# Altium integrated library Analog Devices Data Converters Analog-to-Digital Converters.IntLib: 2404 symbols (part 75 of 346)
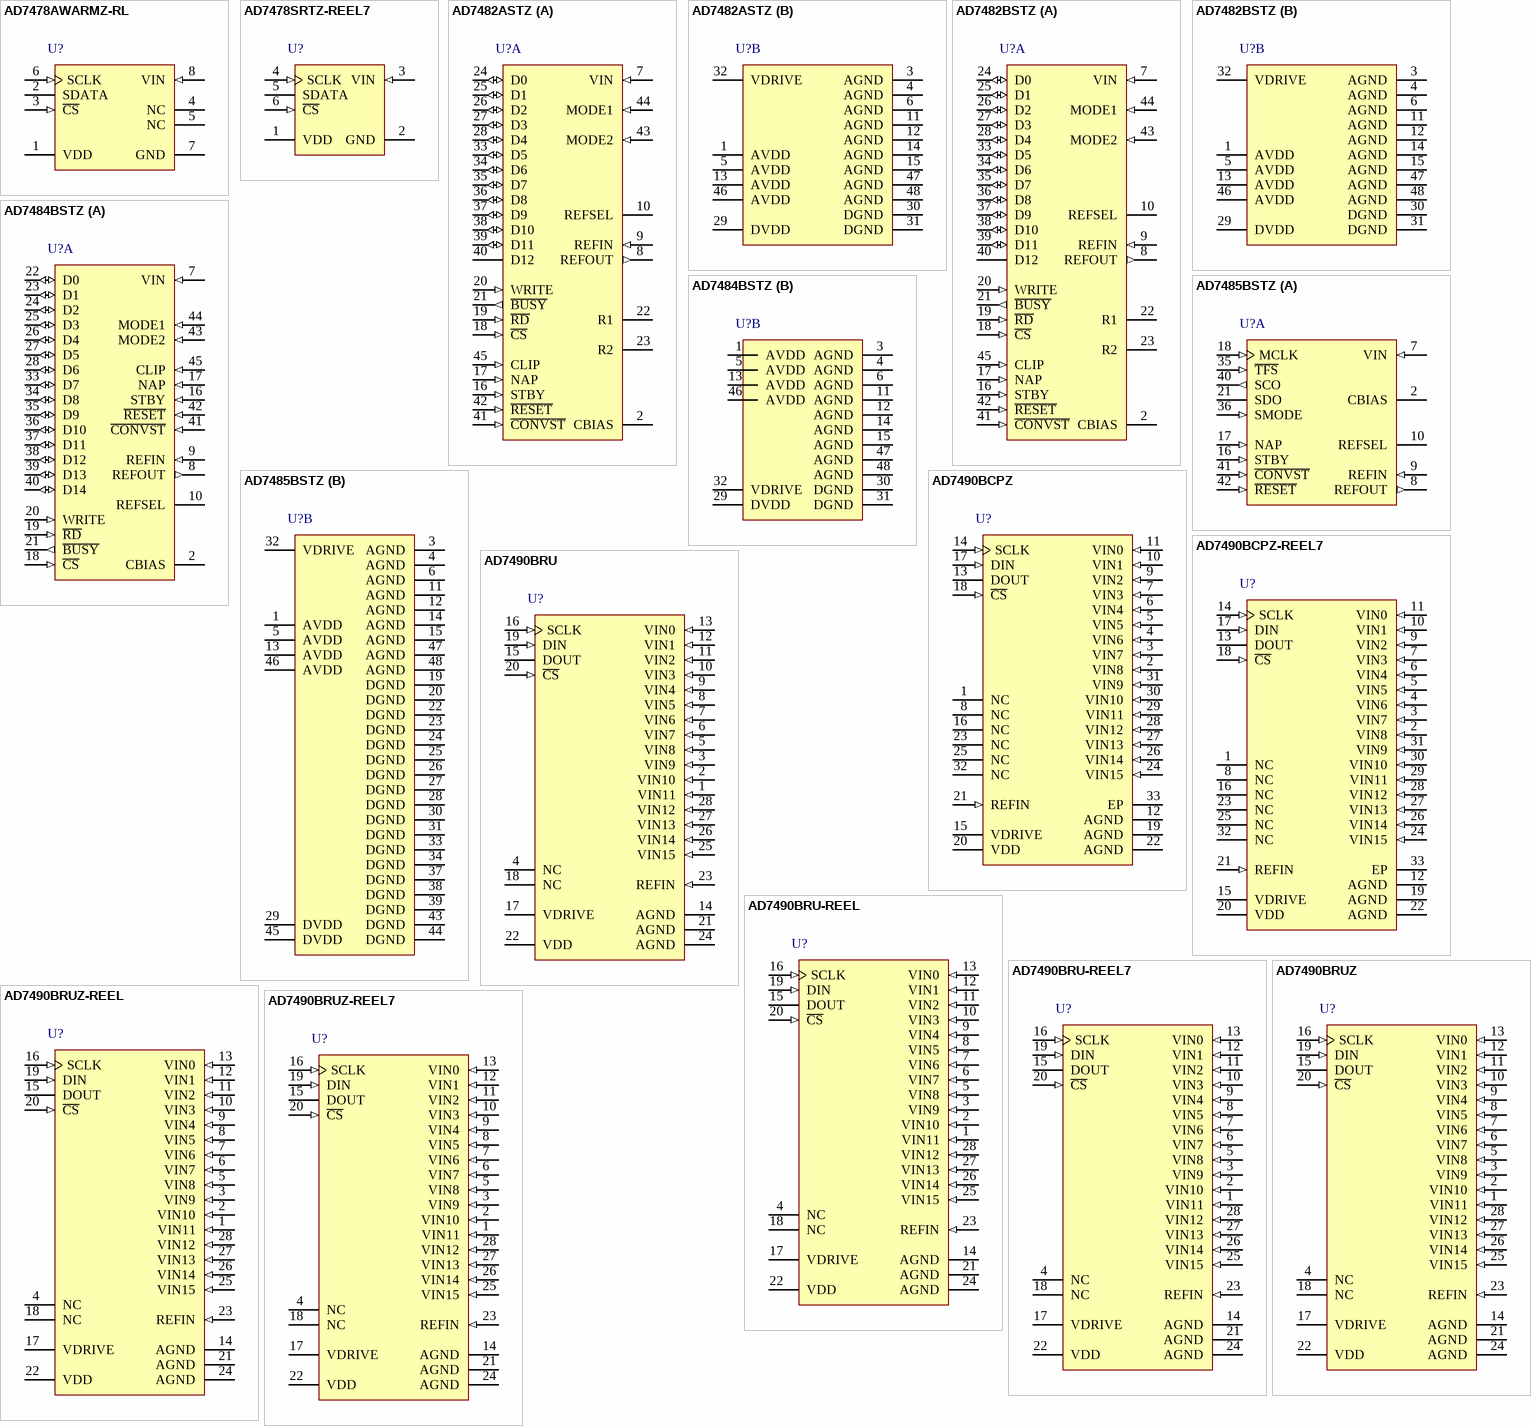
[diagram p295: symbols AD7478AWARMZ-RL to AD7490BRUZ-REEL7]

## AD7482BSTZ
designator U?
Single 12-Bit SAR Analog-to-Digital Converter with Parallel Interface, 3MSPS, 0 to +70 degC, ST-48, Pb-Free, Tray; Generic Part Number: AD7482; Manufacturer: Analog Devices; PartNumber: AD7482BSTZ; Resolution (Bits): 12; Channels: 1; Throughput Rate (SPS): 3M; Interface: Par; DatasheetVersion: Rev.B; PackageVersion: revA; PackageReference: ST-48; PackageDescription: 48-Pin Thin Quad Flat Pack 0.5 mm Pitch; Supplier 1: Digi-Key; Supplier Part Number 1: AD7482BSTZ-ND; Supplier 2: Newark; Supplier Part Number 2: 59K4926; Supplier 3: Mouser; Supplier Part Number 3: 584-AD7482BSTZ; RoHS: Y; Packing: Tray; Mounting Technology: Surface Mount; ComponentLink1Description: Manufacturer URL; ComponentLink1URL: http://www.analog.com/en/index.html; ComponentLink2Description: Datasheet; ComponentLink2URL: http://www.analog.com/static/imported-files/data_sheets/AD7482.pdf; ComponentLink3Description: Package Specification; ComponentLink3URL: http://www.analog.com/static/imported-files/packages/PKG_PDF/LQFP%28ST%29/ST_48.pdf; ComponentLink4Description: Product URL; ComponentLink4URL: http://www.analog.com/en/analog-to-digital-converters/ad-converters/ad7482/products/product.html
footprint ST-48_N (Thin QFP, 48-Leads, Body 7x7mm, Pitch 0.5mm, IPC Medium Density)
footprint ST-48_L (Thin QFP, 48-Leads, Body 7x7mm, Pitch 0.5mm, IPC High Density)
footprint ST-48_M (Thin QFP, 48-Leads, Body 7x7mm, Pitch 0.5mm, IPC Low Density)
part A pins: 2 CBIAS "Decoupling Pin for Internal Bias Voltage. A 1 nF capacitor should be placed between this pin and AGND.", 7 VIN (in) "Analog Input. Single ended analog input channel.", 8 REFOUT (out) "Reference Output. REFOUT connects to the output of the internal 2.5 V reference buffer. A 470 nF capacitor must be placed between this pin and AGND.", 9 REFIN (in) "Reference Input. A 470 nF capacitor must be placed between this pin and AGND. When using an external voltage reference source, the reference voltage should be applied to this pin.", 10 REFSEL "Reference Decoupling Pin. When using the internal reference, a 1 nF capacitor must be connected from this pin to AGND. When using an external reference source, this pin should be connected directly to AGND.", 16 STBY (in) "Standby Logic Input. When this pin is logic high, the device is placed in standby mode. See the Power Saving section for further details.", 17 NAP (in) "Nap Logic Input. When this pin is logic high, the device is placed in a very low power mode. See the Power Saving section for further details.", 18 ~{CS} (in) "Chip Select Logic Input. This pin is used in conjunction with R\D\ to access the conversion result. The data bus is brought out of three-state and the current contents of the output register driven onto the data lines (See Datasheet)", 19 ~{RD} (in) "Read Logic Input. Used in conjunction with C\S\ to access the conversion result.", 20 WRITE (in) "Write Logic Input. Used in conjunction with C\S\ to write data to the offset register. When the desired offset word has been placed on the data bus, the WRITE line should be pulsed high. It is the falling edge of this pulse (See Datasheet)", 21 ~{BUSY} (out) "Busy Logic Output. This pin indicates the status of the conversion process. The B\U\S\Y\ signal goes low after the falling edge of C\O\N\V\S\T\ and stays low for the duration of the conversion. In Parallel Mode 1, the (See Datasheet)", 22 R1 "No Connect. These pins should be pulled to ground via 100 kO resistors.", 23 R2 "No Connect. These pins should be pulled to ground via 100 kO resistors.", 24 D0 (io) "Data I/O Bits. D11 is MSB. These are three-state pins that are controlled by C\S\, R\D\, and WRITE. The operating voltage level for these pins is determined by the VDRIVE input.", 25 D1 (io) "Data I/O Bits. D11 is MSB. These are three-state pins that are controlled by C\S\, R\D\, and WRITE. The operating voltage level for these pins is determined by the VDRIVE input.", 26 D2 (io) "Data I/O Bits. D11 is MSB. These are three-state pins that are controlled by C\S\, R\D\, and WRITE. The operating voltage level for these pins is determined by the VDRIVE input.", 27 D3 (io) "Data I/O Bits. D11 is MSB. These are three-state pins that are controlled by C\S\, R\D\, and WRITE. The operating voltage level for these pins is determined by the VDRIVE input.", 28 D4 (io) "Data I/O Bits. D11 is MSB. These are three-state pins that are controlled by C\S\, R\D\, and WRITE. The operating voltage level for these pins is determined by the VDRIVE input.", 33 D5 (io) "Data I/O Bits. D11 is MSB. These are three-state pins that are controlled by C\S\, R\D\, and WRITE. The operating voltage level for these pins is determined by the VDRIVE input.", 34 D6 (io) "Data I/O Bits. D11 is MSB. These are three-state pins that are controlled by C\S\, R\D\, and WRITE. The operating voltage level for these pins is determined by the VDRIVE input.", 35 D7 (io) "Data I/O Bits. D11 is MSB. These are three-state pins that are controlled by C\S\, R\D\, and WRITE. The operating voltage level for these pins is determined by the VDRIVE input.", 36 D8 (io) "Data I/O Bits. D11 is MSB. These are three-state pins that are controlled by C\S\, R\D\, and WRITE. The operating voltage level for these pins is determined by the VDRIVE input.", 37 D9 (io) "Data I/O Bits. D11 is MSB. These are three-state pins that are controlled by C\S\, R\D\, and WRITE. The operating voltage level for these pins is determined by the VDRIVE input.", 38 D10 (io) "Data I/O Bits. D11 is MSB. These are three-state pins that are controlled by C\S\, R\D\, and WRITE. The operating voltage level for these pins is determined by the VDRIVE input.", 39 D11 (io) "Data I/O Bits. D11 is MSB. These are three-state pins that are controlled by C\S\, R\D\, and WRITE. The operating voltage level for these pins is determined by the VDRIVE input.", 40 D12 (hiz) "Data Output Bit for Overranging. If the overrange feature is not used, this pin should be pulled to DGND via a 100 kO resistor.", 41 ~{CONVST} (in) "Convert Start Logic Input. A conversion is initiated on the falling edge of the C\O\N\V\S\T\ signal. The input track-and-hold amplifier goes from track mode to hold mode, and the conversion process commences.", 42 ~{RESET} (in) "Reset Logic Input. An active low reset pulse must be applied to this pin after power-up to ensure correct operation. A falling edge on this pin resets the internal state machine and terminates a conversion that may be in (See Datasheet)", 43 MODE2 (in) "Operating Mode Logic Input. See Table 8 for details.", 44 MODE1 (in) "Operating Mode Logic Input. See Table 8 for details.", 45 CLIP (in) "Logic Input. A logic high on this pin enables output clipping. In this mode, any input voltage that is greater than positive full scale or less than negative full scale is clipped to all 1s or all 0s, respectively. Further (See Datasheet)"
part B pins: 1 AVDD (power) "Positive Power Supply for Analog Circuitry.", 3 AGND (power) "Power Supply Ground for Analog Circuitry.", 4 AGND (power) "Power Supply Ground for Analog Circuitry.", 5 AVDD (power) "Positive Power Supply for Analog Circuitry.", 6 AGND (power) "Power Supply Ground for Analog Circuitry.", 11 AGND (power) "Power Supply Ground for Analog Circuitry.", 12 AGND (power) "Power Supply Ground for Analog Circuitry.", 13 AVDD (power) "Positive Power Supply for Analog Circuitry.", 14 AGND (power) "Power Supply Ground for Analog Circuitry.", 15 AGND (power) "Power Supply Ground for Analog Circuitry.", 29 DVDD (power) "Positive Power Supply for Digital Circuitry.", 30 DGND (power) "Ground Reference for Digital Circuitry.", 31 DGND (power) "Ground Reference for Digital Circuitry.", 32 VDRIVE (power) "Logic Power Supply Input. The voltage supplied at this pin determines at what voltage the interface logic of the device operates.", 46 AVDD (power) "Positive Power Supply for Analog Circuitry.", 47 AGND (power) "Power Supply Ground for Analog Circuitry.", 48 AGND (power) "Power Supply Ground for Analog Circuitry."

## AD7484BSTZ
designator U?
Single 14-Bit SAR Analog-to-Digital Converter with Parallel Interface, 3MSPS, 0 to +70 degC, ST-48, Pb-Free, Tray; Generic Part Number: AD7484; Manufacturer: Analog Devices; PartNumber: AD7484BSTZ; Resolution (Bits): 14; Channels: 1; Throughput Rate (SPS): 3M; Interface: Par; DatasheetVersion: Rev.C; PackageVersion: revA; PackageReference: ST-48; PackageDescription: 48-Pin Thin Quad Flat Pack 0.5 mm Pitch; Supplier 1: Digi-Key; Supplier Part Number 1: AD7484BSTZ-ND; Supplier 2: Farnell; Supplier Part Number 2: 1438350; Supplier 3: Newark; Supplier Part Number 3: 59K4928; Supplier 4: Mouser; Supplier Part Number 4: 584-AD7484BSTZ; RoHS: Y; Packing: Tray; Mounting Technology: Surface Mount; ComponentLink1Description: Manufacturer URL; ComponentLink1URL: http://www.analog.com/en/index.html; ComponentLink2Description: Datasheet; ComponentLink2URL: http://www.analog.com/static/imported-files/data_sheets/AD7484.pdf; ComponentLink3Description: Package Specification; ComponentLink3URL: http://www.analog.com/static/imported-files/packages/PKG_PDF/LQFP%28ST%29/ST_48.pdf; ComponentLink4Description: Product URL; ComponentLink4URL: http://www.analog.com/en/analog-to-digital-converters/ad-converters/ad7484/products/product.html
footprint ST-48_N (Thin QFP, 48-Leads, Body 7x7mm, Pitch 0.5mm, IPC Medium Density)
footprint ST-48_L (Thin QFP, 48-Leads, Body 7x7mm, Pitch 0.5mm, IPC High Density)
footprint ST-48_M (Thin QFP, 48-Leads, Body 7x7mm, Pitch 0.5mm, IPC Low Density)
part A pins: 2 CBIAS "Decoupling Pin for Internal Bias Voltage. A 1 nF capacitor should be placed between this pin and AGND.", 7 VIN (in) "Analog Input. Single ended analog input channel.", 8 REFOUT (out) "Reference Output. REFOUT connects to the output of the internal 2.5 V reference buffer. A 470 nF capacitor must be placed between this pin and AGND.", 9 REFIN (in) "Reference Input. A 470 nF capacitor must be placed between this pin and AGND. When using an external voltage reference source, the reference voltage should be applied to this pin.", 10 REFSEL "Reference Decoupling Pin. When using the internal reference, a 1 nF capacitor must be connected from this pin to AGND. When using an external reference source, this pin should be connected directly to AGND.", 16 STBY (in) "Standby Logic Input. When this pin is logic high, the device is placed in standby mode. See the Power Saving section for further details.", 17 NAP (in) "Nap Logic Input. When this pin is logic high, the device is placed in a very low power mode. See the Power Saving section for further details.", 18 ~{CS} (in) "Chip Select Logic Input. This pin is used in conjunction with R\D\ to access the conversion result. The data bus is brought out of three-state and the current contents of the output register driven onto the data lines (See Datasheet)", 19 ~{RD} (in) "Read Logic Input. Used in conjunction with C\S\ to access the conversion result.", 20 WRITE (in) "Write Logic Input. Used in conjunction with C\S\ to write data to the offset register. When the desired offset word has been placed on the data bus, the WRITE line should be pulsed high. It is the falling edge of this pulse (See Datasheet)", 21 ~{BUSY} (out) "Busy Logic Output. This pin indicates the status of the conversion process. The B\U\S\Y\ signal goes low after the falling edge of C\O\N\V\S\T\ and stays low for the duration of the conversion. In Parallel Mode 1, the (See Datasheet)", 22 D0 (io) "Data I/O Bits. D13 is MSB. These are three-state pins that are controlled by C\S\, R\D\, and WRITE. The operating  voltage level for these pins is determined by the VDRIVE input.", 23 D1 (io) "Data I/O Bits. D13 is MSB. These are three-state pins that are controlled by C\S\, R\D\, and WRITE. The operating  voltage level for these pins is determined by the VDRIVE input.", 24 D2 (io) "Data I/O Bits. D13 is MSB. These are three-state pins that are controlled by C\S\, R\D\, and WRITE. The operating  voltage level for these pins is determined by the VDRIVE input.", 25 D3 (io) "Data I/O Bits. D13 is MSB. These are three-state pins that are controlled by C\S\, R\D\, and WRITE. The operating  voltage level for these pins is determined by the VDRIVE input.", 26 D4 (io) "Data I/O Bits. D13 is MSB. These are three-state pins that are controlled by C\S\, R\D\, and WRITE. The operating  voltage level for these pins is determined by the VDRIVE input.", 27 D5 (io) "Data I/O Bits. D13 is MSB. These are three-state pins that are controlled by C\S\, R\D\, and WRITE. The operating  voltage level for these pins is determined by the VDRIVE input.", 28 D6 (io) "Data I/O Bits. D13 is MSB. These are three-state pins that are controlled by C\S\, R\D\, and WRITE. The operating  voltage level for these pins is determined by the VDRIVE input.", 33 D7 (io) "Data I/O Bits. D13 is MSB. These are three-state pins that are controlled by C\S\, R\D\, and WRITE. The operating  voltage level for these pins is determined by the VDRIVE input.", 34 D8 (io) "Data I/O Bits. D13 is MSB. These are three-state pins that are controlled by C\S\, R\D\, and WRITE. The operating  voltage level for these pins is determined by the VDRIVE input.", 35 D9 (io) "Data I/O Bits. D13 is MSB. These are three-state pins that are controlled by C\S\, R\D\, and WRITE. The operating  voltage level for these pins is determined by the VDRIVE input.", 36 D10 (io) "Data I/O Bits. D13 is MSB. These are three-state pins that are controlled by C\S\, R\D\, and WRITE. The operating  voltage level for these pins is determined by the VDRIVE input.", 37 D11 (io) "Data I/O Bits. D13 is MSB. These are three-state pins that are controlled by C\S\, R\D\, and WRITE. The operating  voltage level for these pins is determined by the VDRIVE input.", 38 D12 (io) "Data I/O Bits. D13 is MSB. These are three-state pins that are controlled by C\S\, R\D\, and WRITE. The operating  voltage level for these pins is determined by the VDRIVE input.", 39 D13 (io) "Data I/O Bits. D13 is MSB. These are three-state pins that are controlled by C\S\, R\D\, and WRITE. The operating  voltage level for these pins is determined by the VDRIVE input.", 40 D14 (io) "Data Output Bit for Overranging. If the overrange feature is not used, this pin should be pulled to DGND via a 100 k ohm resistor.", 41 ~{CONVST} (in) "Convert Start Logic Input. A conversion is initiated on the falling edge of the C\O\N\V\S\T\ signal. The input track and-hold amplifier goes from track mode to hold mode, and the conversion process commences.", 42 ~{RESET} (in) "Reset Logic Input. An active low reset pulse must be applied to this pin after power-up to ensure correct operation. A falling edge on this pin resets the internal state machine and terminates a conversion that may be in (See Datasheet)", 43 MODE2 (in) "Operating Mode Logic Input. See Table 8 for details.", 44 MODE1 (in) "Operating Mode Logic Input. See Table 8 for details.", 45 CLIP (in) "Logic Input. A logic high on this pin enables output clipping. In this mode, any input voltage that is greater than positive full scale or less than negative full scale will be clipped to all 1s or all 0s, respectively. (See Datasheet)"
part B pins: 1 AVDD (power) "Positive Power Supply for Analog Circuitry.", 3 AGND (power) "Power Supply Ground for Analog Circuitry.", 4 AGND (power) "Power Supply Ground for Analog Circuitry.", 5 AVDD (power) "Positive Power Supply for Analog Circuitry.", 6 AGND (power) "Power Supply Ground for Analog Circuitry.", 11 AGND (power) "Power Supply Ground for Analog Circuitry.", 12 AGND (power) "Power Supply Ground for Analog Circuitry.", 13 AVDD (power) "Positive Power Supply for Analog Circuitry.", 14 AGND (power) "Power Supply Ground for Analog Circuitry.", 15 AGND (power) "Power Supply Ground for Analog Circuitry.", 29 DVDD (power) "Positive Power Supply for Digital Circuitry.", 30 DGND (power) "Ground Reference for Digital Circuitry.", 31 DGND (power) "Ground Reference for Digital Circuitry.", 32 VDRIVE (power) "Logic Power Supply Input. The voltage supplied at this pin determines at what voltage the interface logic of the device operates.", 46 AVDD (power) "Positive Power Supply for Analog Circuitry.", 47 AGND (power) "Power Supply Ground for Analog Circuitry.", 48 AGND (power) "Power Supply Ground for Analog Circuitry."

## AD7485BSTZ
designator U?
Single 14-Bit SAR Analog-to-Digital Converter with Serial Interface, 1MSPS, -40 to +85 degC, ST-48, Pb-Free, Tray; Generic Part Number: AD7485; Manufacturer: Analog Devices; PartNumber: AD7485BSTZ; Resolution (Bits): 14; Channels: 1; Throughput Rate (SPS): 1M; Interface: Ser; DatasheetVersion: Rev.A; PackageVersion: revA; PackageReference: ST-48; PackageDescription: 48-Pin Thin Quad Flat Pack 0.5 mm Pitch; Supplier 1: Digi-Key; Supplier Part Number 1: AD7485BSTZ-ND; Supplier 2: Mouser; Supplier Part Number 2: 584-AD7485BSTZ; RoHS: Y; Packing: Tray; Mounting Technology: Surface Mount; ComponentLink1Description: Manufacturer URL; ComponentLink1URL: http://www.analog.com/en/index.html; ComponentLink2Description: Datasheet; ComponentLink2URL: http://www.analog.com/static/imported-files/data_sheets/AD7485.pdf; ComponentLink3Description: Package Specification; ComponentLink3URL: http://www.analog.com/static/imported-files/packages/PKG_PDF/LQFP%28ST%29/ST_48.pdf; ComponentLink4Description: Product URL; ComponentLink4URL: http://www.analog.com/en/analog-to-digital-converters/ad-converters/ad7485/products/product.html
footprint ST-48_N (Thin QFP, 48-Leads, Body 7x7mm, Pitch 0.5mm, IPC Medium Density)
footprint ST-48_L (Thin QFP, 48-Leads, Body 7x7mm, Pitch 0.5mm, IPC High Density)
footprint ST-48_M (Thin QFP, 48-Leads, Body 7x7mm, Pitch 0.5mm, IPC Low Density)
part A pins: 2 CBIAS "Decoupling Pin for Internal Bias Voltage. A 1 nF capacitor should be placed between this pin and AGND.", 7 VIN (in) "Analog Input. Single-ended analog input channel.", 8 REFOUT (out) "Reference Output. REFOUT connects to the output of the internal 2.5 V reference buffer. A 470 nF capacitor must be placed between this pin and AGND.", 9 REFIN (in) "Reference Input. A 470 nF capacitor must be placed between this pin and AGND. When using  an external voltage reference source, the reference voltage should be applied to this pin.", 10 REFSEL "Reference Decoupling Pin. When using the internal reference, a 1 nF capacitor must be connected from this pin to AGND. When using an external reference source, this pin should be connected directly to AGND.", 16 STBY (in) "Standby Logic Input. When this pin is logic high, the device will be placed in STANDBY mode. See the Power Saving section for further details.", 17 NAP (in) "Nap Logic Input. When this pin is logic high, the device will be placed in a very low power mode. See the Power Saving section for further details.", 18 MCLK (in) "Master Clock Input. This is the input for the master clock, which controls the conversion cycle. The fre-quency of this clock may be up to 25 MHz. Twenty-four clock cycles are required for each conversion.", 21 SDO (hiz) "Serial Data Output. The conversion data is latched out on this pin on the rising edge of SCO. It should be latched into the receiving serial port of the DSP on the falling edge of SCO. The over- range bit is latched out (See Datasheet)", 35 ~{TFS} (in) "Transmit Frame Sync Input. In Serial Mode 2, this pin acts as a framing signal for the serial data being clocked out on SDO. A falling edge on TFS  brings SDO out of three-state and the data starts to get clocked out on the (See Datasheet)", 36 SMODE (in) "Serial Mode Input. A logic low on this pin selects Serial Mode 1 and a logic high selects Serial Mode 2. See the Serial Interface section for further details.", 40 SCO (out) "Serial Clock Output. This clock is derived from MCLK and is used to latch conversion data from the device. See the Serial Interface section for further details.", 41 ~{CONVST} (in) "Convert Start Logic Input. A conversion is initiated on the falling edge of the C\O\N\V\S\T\  signal. The input track/hold amplifier goes from track mode to hold mode and the conversion process commences.", 42 ~{RESET} (in) "Reset Logic Input. A falling edge on this pin resets the internal state machine and terminates a conversion that may be in progress. Holding this pin low keeps the part in a reset state."
part B pins: 1 AVDD (power) "Positive Power Supply for Analog Circuitry", 3 AGND (power) "Power Supply Ground for Analog Circuitry", 4 AGND (power) "Power Supply Ground for Analog Circuitry", 5 AVDD (power) "Positive Power Supply for Analog Circuitry", 6 AGND (power) "Power Supply Ground for Analog Circuitry", 11 AGND (power) "Power Supply Ground for Analog Circuitry", 12 AGND (power) "Power Supply Ground for Analog Circuitry", 13 AVDD (power) "Positive Power Supply for Analog Circuitry", 14 AGND (power) "Power Supply Ground for Analog Circuitry", 15 AGND (power) "Power Supply Ground for Analog Circuitry", 19 DGND (power) "Ground Reference for Digital Circuitry", 20 DGND (power) "Ground Reference for Digital Circuitry", 22 DGND (power) "Ground Reference for Digital Circuitry", 23 DGND (power) "Ground Reference for Digital Circuitry", 24 DGND (power) "Ground Reference for Digital Circuitry", 25 DGND (power) "Ground Reference for Digital Circuitry", 26 DGND (power) "Ground Reference for Digital Circuitry", 27 DGND (power) "Ground Reference for Digital Circuitry", 28 DGND (power) "Ground Reference for Digital Circuitry", 29 DVDD (power) "Positive Power Supply for Digital Circuitry", 30 DGND (power) "Ground Reference for Digital Circuitry", 31 DGND (power) "Ground Reference for Digital Circuitry", 32 VDRIVE (power) "Logic Power Supply Input. The voltage supplied at this pin determines at what voltage the interface logic of the AD7485 will operate.", 33 DGND (power) "Ground Reference for Digital Circuitry", 34 DGND (power) "Ground Reference for Digital Circuitry", 37 DGND (power) "Ground Reference for Digital Circuitry", 38 DGND (power) "Ground Reference for Digital Circuitry", 39 DGND (power) "Ground Reference for Digital Circuitry", 43 DGND (power) "Ground Reference for Digital Circuitry", 44 DGND (power) "Ground Reference for Digital Circuitry", 45 DVDD (power) "Positive Power Supply for Digital Circuitry", 46 AVDD (power) "Positive Power Supply for Analog Circuitry", 47 AGND (power) "Power Supply Ground for Analog Circuitry", 48 AGND (power) "Power Supply Ground for Analog Circuitry"